# Altium schematic symbol library HEAT_SINK_1.SchLib: 1 symbol
Pins are listed as number, name and electrical type; pins without a type are passive.

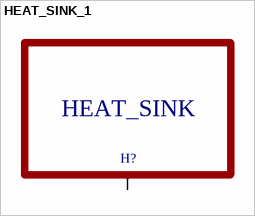
[diagram p0: symbol HEAT_SINK_1]

## HEAT_SINK_1
designator H?
pins: 1
text: HEAT_SINK